# Altium footprint library BM08_1M.PcbLib: 1 footprints
Each footprint in its own frame and in the unit in brackets; x right, y up, seen from the top. Pads: shape width x height; smd on the part's side, far side on the other; paste and mask are expansions set on the pad; w line width, h text height; cw(c..) or ccw(c..) is an arc to the next point about the centre after c.
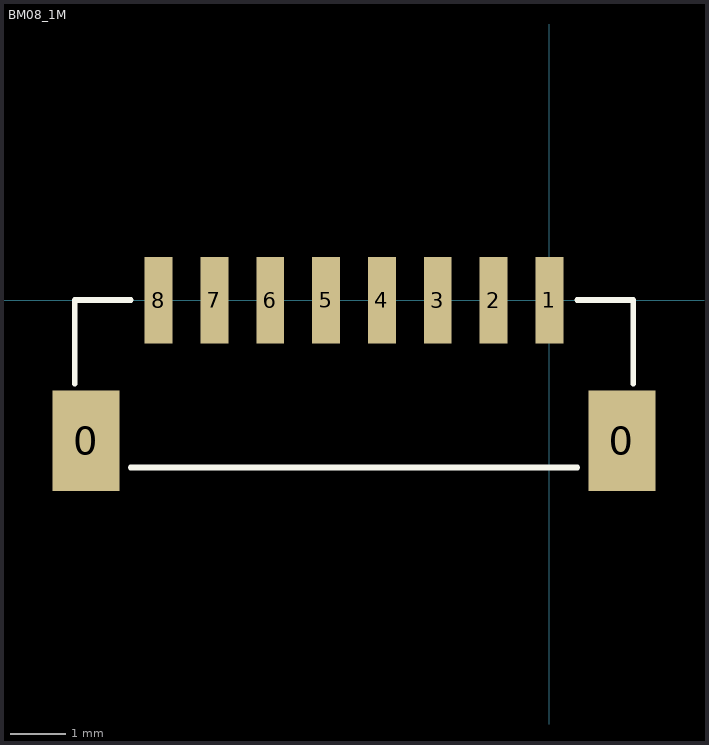
[diagram p0: the footprint, top view; thin cyan lines are the x and y axes]

## BM08_1M [mm]
pads (10):
  rect 1.2x1.8 smd: 0(-8.3,-2.525) 0(1.3,-2.525)
  rect 0.5x1.55 smd: 1(0,0) 2(-1,0) 3(-2,0) 4(-3,0) 5(-4,0) 6(-5,0) 7(-6,0) 8(-7,0)
Top Overlay:
  lines w0.102: -8.5,-1.5 -8.5,0 -7.5,0 ; -7.5,-3 0.5,-3 ; 0.5,0 1.5,0 1.5,-1.5
3D body: height 4.25, standoff -0.07, extent -8.581,-2.937 1.419,0.663